# Altium schematic symbol library RC0603FR-071K1L.SchLib: 1 symbol
Pins are listed as number, name and electrical type; pins without a type are passive.

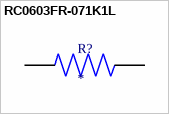
[diagram p0: symbol RC0603FR-071K1L]

## RC0603FR-071K1L
designator R?
Thick film general purpose; MP: RC0603FR-071K1L; Package: None; Price: None; Value: *; Availability: Unavailable
pins: 1, 2